# EAGLE library part BPI_ZERO (library Embedded > SBC)
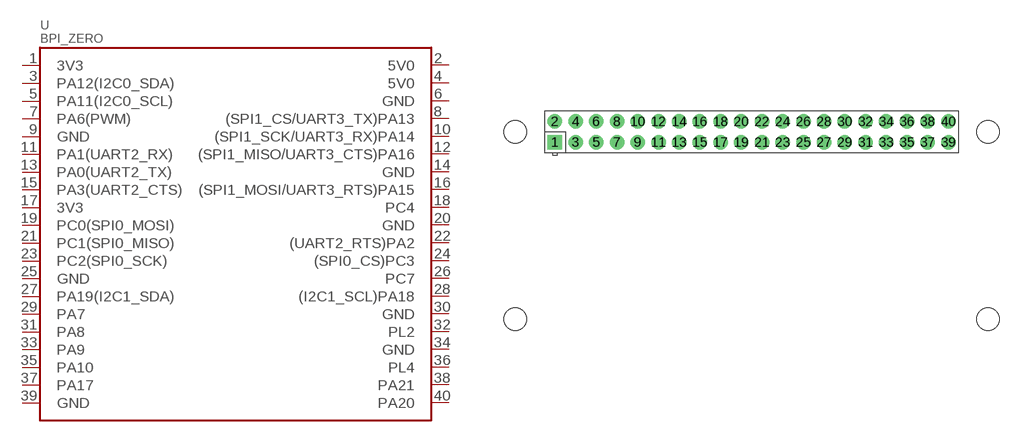
[diagram p0: symbol with the pads of PI_ZERO; footprint PI_ZERO]

Designator prefix U

## BPI_ZERO  [PI_ZERO]
1  3V3  sup
2  5V0  sup
3  PA12(I2C0_SDA)
4  5V0  sup
5  PA11(I2C0_SCL)
6  GND  sup
7  PA6(PWM)
8  (SPI1_CS/UART3_TX)PA13
9  GND  sup
10  (SPI1_SCK/UART3_RX)PA14
11  PA1(UART2_RX)
12  (SPI1_MISO/UART3_CTS)PA16
13  PA0(UART2_TX)
14  GND  sup
15  PA3(UART2_CTS)
16  (SPI1_MOSI/UART3_RTS)PA15
17  3V3  sup
18  PC4
19  PC0(SPI0_MOSI)
20  GND  sup
21  PC1(SPI0_MISO)
22  (UART2_RTS)PA2
23  PC2(SPI0_SCK)
24  (SPI0_CS)PC3
25  GND  sup
26  PC7
27  PA19(I2C1_SDA)
28  (I2C1_SCL)PA18
29  PA7
30  GND  sup
31  PA8
32  PL2
33  PA9
34  GND  sup
35  PA10
36  PL4
37  PA17
38  PA21
39  GND  sup
40  PA20

## Footprint PI_ZERO (pad centres in mm)
Raspberry Pi board model B+, full outline with position of big connectors & drill holes
drill 1 pad 1.778 square: 1 8.37,25.23
drill 1 pad 1.778: 2 8.37,27.77; 3 10.91,25.23; 4 10.91,27.77; 5 13.45,25.23; 6 13.45,27.77; 7 15.99,25.23; 8 15.99,27.77; 9 18.53,25.23; 10 18.53,27.77; 11 21.07,25.23; 12 21.07,27.77; 13 23.61,25.23; 14 23.61,27.77; 15 26.15,25.23; 16 26.15,27.77; 17 28.69,25.23; 18 28.69,27.77; 19 31.23,25.23; 20 31.23,27.77; 21 33.77,25.23; 22 33.77,27.77; 23 36.31,25.23; 24 36.31,27.77; 25 38.85,25.23; 26 38.85,27.77; 27 41.39,25.23; 28 41.39,27.77; 29 43.93,25.23; 30 43.93,27.77; 31 46.47,25.23; 32 46.47,27.77; 33 49.01,25.23; 34 49.01,27.77; 35 51.55,25.23; 36 51.55,27.77; 37 54.09,25.23; 38 54.09,27.77; 39 56.63,25.23; 40 56.63,27.77
hole 2.75 at 3.5,3.5
hole 2.75 at 3.5,26.5
hole 2.75 at 61.5,3.5
hole 2.75 at 61.5,26.5